# Altium footprint library pinger-pcblib.PcbLib: 11 footprints
Each footprint in its own frame and in the unit in brackets; x right, y up, seen from the top. Pads: shape width x height; smd on the part's side, far side on the other; paste and mask are expansions set on the pad; w line width, h text height; cw(c..) or ccw(c..) is an arc to the next point about the centre after c.
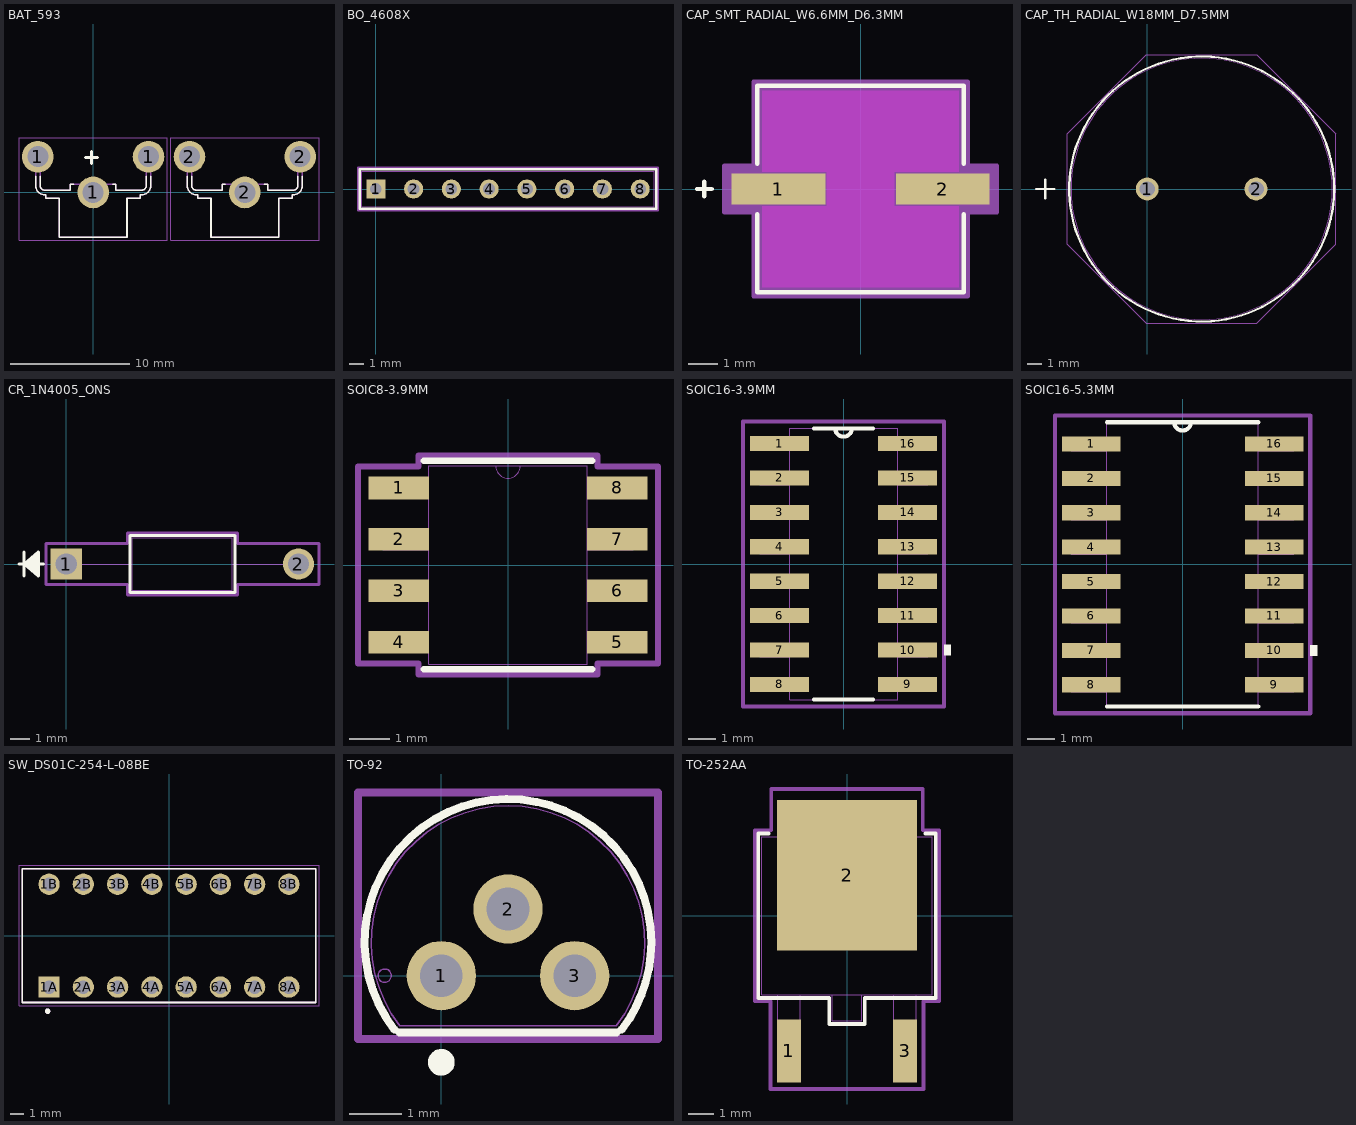
[diagram p0: the footprints below, top view; thin cyan lines are the x and y axes]

## BAT_593 [mm]
height 14.22
pads (6):
  round 2.655 hole 1.77: 1(-4.635,3) 1(0,0) 1(4.635,3) 2(8.065,3) 2(12.7,0) 2(17.335,3)
Top Overlay:
  lines w0.127: -4.825,1.352 -4.825,0.57 ccw(c-4.065,0.57) -4.065,-0.19 -3.962,-0.19 -3.962,-0.495 -2.832,-0.495 -2.832,-3.75 2.832,-3.75 2.832,-0.495 3.962,-0.495 3.962,-0.19 4.065,-0.19 ccw(c4.065,0.57) 4.825,0.57 4.825,1.352 ; -4.445,1.352 -4.445,0.57 ccw(c-4.065,0.57) -4.065,0.19 -1.905,0.19 -1.905,0.7 -1.647,0.7 ; 1.647,0.7 1.905,0.7 1.905,0.19 4.065,0.19 ccw(c4.065,0.57) 4.445,0.57 4.445,1.352 ; 7.875,1.352 7.875,0.57 ccw(c8.635,0.57) 8.635,-0.19 8.738,-0.19 8.738,-0.495 9.867,-0.495 9.867,-3.75 15.532,-3.75 15.532,-0.495 16.662,-0.495 16.662,-0.19 16.765,-0.19 ccw(c16.765,0.57) 17.525,0.57 17.525,1.352 ; 8.255,1.352 8.255,0.57 ccw(c8.635,0.57) 8.635,0.19 10.795,0.19 10.795,0.7 11.052,0.7 ; 14.347,0.7 14.605,0.7 14.605,0.19 16.765,0.19 ccw(c16.765,0.57) 17.145,0.57 17.145,1.352
  lines w0.25: -0.635,2.921 0.381,2.921 ; -0.127,2.413 -0.127,3.429
Mechanical 13:
  lines w0.127: -4.825,0.57 ccw(c-4.065,0.57) -4.065,-0.19 -3.962,-0.19 -3.962,-0.495 -2.832,-0.495 -2.832,-3.75 2.832,-3.75 2.832,-0.495 3.962,-0.495 3.962,-0.19 4.065,-0.19 ccw(c4.065,0.57) 4.825,0.57 4.825,3.77 4.445,3.77 4.445,0.57 cw(c4.065,0.57) 4.065,0.19 1.905,0.19 1.905,0.7 -1.905,0.7 -1.905,0.19 -4.065,0.19 cw(c-4.065,0.57) -4.445,0.57 -4.445,3.77 -4.825,3.77 -4.825,0.57 ; 7.875,0.57 ccw(c8.635,0.57) 8.635,-0.19 8.738,-0.19 8.738,-0.495 9.867,-0.495 9.867,-3.75 15.532,-3.75 15.532,-0.495 16.662,-0.495 16.662,-0.19 16.765,-0.19 ccw(c16.765,0.57) 17.525,0.57 17.525,3.77 17.145,3.77 17.145,0.57 cw(c16.765,0.57) 16.765,0.19 14.605,0.19 14.605,0.7 10.795,0.7 10.795,0.19 8.635,0.19 cw(c8.635,0.57) 8.255,0.57 8.255,3.77 7.875,3.77 7.875,0.57
Mechanical 15:
  lines w0.05: -6.212,-4 6.212,-4 6.212,4.577 -6.212,4.577 -6.212,-4 ; 6.487,-4 6.487,4.577 18.912,4.577 18.912,-4 6.487,-4
3D body "step_temp.STEP": height 14.2, standoff -2.82, extent -4.699,-3.556 4.953,3.962
3D body "step_temp.STEP": height 14.2, standoff -2.82, extent 8.001,-3.556 17.653,3.962

## BO_4608X [mil]
pads (8):
  rect 52x52 hole 32 paste-99999 mask+0: 1(0,0)
  round 52 hole 32 paste-99999 mask+0: 2(103,0) 3(206,0) 4(309,0) 5(412,0) 6(515,0) 7(618,0) 8(721,0)
Top Overlay:
  lines w6: -43.5,-54 -43.5,54 764.5,54 764.5,-54 -43.5,-54
Mechanical 13:
  lines w1: -38.5,-49 -38.5,49 759.5,49 759.5,-49 -38.5,-49
Mechanical 15:
  lines w6: -48.5,-59 769.5,-59 769.5,59 -48.5,59 -48.5,-59
3D body "BO_4608X.step": height 200, standoff -187.99, extent -38.5,-49.02 759.49,49.02

## CAP_SMT_RADIAL_W6.6MM_D6.3MM [mil]
pads (2):
  rect 126x42 smd paste+0 mask+0: 1(-110.5,0) 2(110.5,0)
Top Layer keep-out:
  region: -132,-132 -132,-23 132,-23 132,-132
  region: -132,23 -132,132 132,132 132,23
  region: -45.5,-23 -45.5,23 45.5,23 45.5,-23
Top Overlay:
  lines w6: -220,0 -200,0 ; -210,-10 -210,10 ; -139,-34.1 -139,-139 139,-139 139,-34.1 ; -139,34.1 -139,139 139,139 139,34.1
Keep-Out Layer:
  region: -45.5,-23 -45.5,23 45.5,23 45.5,-23
Mechanical 13:
  lines w1: -134,-67 -67,-134 ; -134,67 -67,134 ; -134,-134 -134,134 134,134 134,-134 -134,-134
Mechanical 15:
  region: -144,-31 -183.5,-31 -183.5,31 -144,31 -144,144 144,144 144,31 183.5,31 183.5,-31 144,-31 144,-144 -144,-144
  lines w6: -183.5,-31 -144,-31 -144,-144 144,-144 144,-31 183.5,-31 183.5,31 144,31 144,144 -144,144 -144,31 -183.5,31 -183.5,-31
3D body "EXV-9H_KEM.step": height 317.09, standoff 0, extent -153.5,-134.02 153.5,134.02

## CAP_TH_RADIAL_W18MM_D7.5MM [mil]
pads (2):
  round 62 hole 42 paste-99999 mask+0: 1(0,0) 2(295.28,0)
Top Overlay:
  circle w6: c147.64,0 r359.5
  lines w6: -301.86,0 -251.86,0 ; -276.86,-25 -276.86,25
Mechanical 13:
  circle w1: c147.64,0 r354.5
  lines w1: -301.86,0 -251.86,0 ; -276.86,-25 -276.86,25
Mechanical 15:
  lines w1: -216.86,-150.09 -216.86,150.09 -2.45,364.5 297.73,364.5 512.14,150.09 512.14,-150.09 297.73,-364.5 -2.45,-364.5 -216.86,-150.09
3D body "CAP_UBY_18X35P5_NCH.step": height 1457.6, standoff -195.98, extent -206.85,-353.67 502.77,353.67

## CR_1N4005_ONS [mil]
pads (2):
  rect 64x64 / inner round 60 / far side rect 64x64 hole 44 paste-99999 mask+0: 1(0,0)
  round 64 / inner round 60 / far side round 64 hole 44 paste-99999 mask+0: 2(475.59,0)
Top Overlay:
  lines w6: -97,0 -47,0 ; -87,-25 -87,25 ; -57,-20 -87,0 ; -57,-15 -87,0 ; -57,-10 -87,0 ; -57,-5 -87,0 ; -57,5 -87,0 ; -57,10 -87,0 ; -57,15 -87,0 ; -57,20 -87,0 ; -87,0 -57,25 -57,-25 -87,0 ; 130.3,-58.5 345.3,-58.5 345.3,58.5 130.3,58.5 130.3,-58.5
Mechanical 13:
  lines w1: -97,0 -47,0 ; -87,-25 -87,25 ; -57,-20 -87,0 ; -57,-15 -87,0 ; -57,-10 -87,0 ; -57,-5 -87,0 ; -57,5 -87,0 ; -57,10 -87,0 ; -57,15 -87,0 ; -57,20 -87,0 ; 0,0 135.3,0 ; 340.3,0 475.59,0 ; -87,0 -57,25 -57,-25 -87,0 ; 135.3,-53.5 340.3,-53.5 340.3,53.5 135.3,53.5 135.3,-53.5
Mechanical 15:
  lines w6: -42,-42 -42,42 125.3,42 125.3,63.5 350.3,63.5 350.3,42 517.59,42 517.59,-42 350.3,-42 350.3,-63.5 125.3,-63.5 125.3,-42 -42,-42
3D body "CR_1N4005_ONS.step": height 107.05, standoff -100, extent -17.01,-53.21 492.6,53.21

## SOIC8-3.9MM [mil]
pads (8):
  rect 59x22 smd paste+0 mask+0: 1(-106.5,75) 2(-106.5,25) 3(-106.5,-25) 4(-106.5,-75) 5(106.5,-75) 6(106.5,-25) 7(106.5,25) 8(106.5,75)
Top Overlay:
  lines w6: -82,-101.5 82,-101.5 ; -82,101.5 82,101.5
  text "." at -165,75 h30
Mechanical 13:
  lines w1: -12,96.5 ccw(c0,96.5) 12,96.5 ; -122,-85 -77,-85 -77,-65 -122,-65 -122,-85 ; -122,-35 -77,-35 -77,-15 -122,-15 -122,-35 ; -122,15 -77,15 -77,35 -122,35 -122,15 ; -122,65 -77,65 -77,85 -122,85 -122,65 ; -77,-96.5 -77,96.5 77,96.5 77,-96.5 -77,-96.5 ; 77,-85 122,-85 122,-65 77,-65 77,-85 ; 77,-35 122,-35 122,-15 77,-15 77,-35 ; 77,15 122,15 122,35 77,35 77,15 ; 77,65 122,65 122,85 77,85 77,65
Mechanical 15:
  lines w6: -146,-96 -87,-96 -87,-106.5 87,-106.5 87,-96 146,-96 146,96 87,96 87,106.5 -87,106.5 -87,96 -146,96 -146,-96
3D body "SOIC8_ONS.step": height 69.09, standoff 0, extent -122.01,-96.5 122.01,96.5

## SOIC16-3.9MM [mil]
pads (16):
  rect 86x22 smd paste-43 mask-43: 1(-93,175) 2(-93,125) 3(-93,75) 4(-93,25) 5(-93,-25) 6(-93,-75) 7(-93,-125) 8(-93,-175) 9(93,-175) 10(93,-125) 11(93,-75) 12(93,-25) 13(93,25) 14(93,75) 15(93,125) 16(93,175)
Top Overlay:
  region: 146,-117.5 156,-117.5 156,-132.5 146,-132.5
  lines w6: -42.89,-197 42.89,-197 ; -42.89,197 42.89,197 ; -12,197 ccw(c0,197) 12,197
  text "." at -180,175 h25
Mechanical 13:
  lines w1: -12,197 ccw(c0,197) 12,197 ; -122,-185 -122,-165 -78.5,-165 -78.5,-185 -122,-185 ; -122,-135 -122,-115 -78.5,-115 -78.5,-135 -122,-135 ; -122,-85 -122,-65 -78.5,-65 -78.5,-85 -122,-85 ; -122,-35 -122,-15 -78.5,-15 -78.5,-35 -122,-35 ; -122,15 -122,35 -78.5,35 -78.5,15 -122,15 ; -122,65 -122,85 -78.5,85 -78.5,65 -122,65 ; -122,115 -122,135 -78.5,135 -78.5,115 -122,115 ; -122,165 -122,185 -78.5,185 -78.5,165 -122,165 ; -78.5,-197 78.5,-197 78.5,197 -78.5,197 -78.5,-197 ; 78.5,-185 78.5,-165 122,-165 122,-185 78.5,-185 ; 78.5,-135 78.5,-115 122,-115 122,-135 78.5,-135 ; 78.5,-85 78.5,-65 122,-65 122,-85 78.5,-85 ; 78.5,-35 78.5,-15 122,-15 122,-35 78.5,-35 ; 78.5,15 78.5,35 122,35 122,15 78.5,15 ; 78.5,65 78.5,85 122,85 122,65 78.5,65 ; 78.5,115 78.5,135 122,135 122,115 78.5,115 ; 78.5,165 78.5,185 122,185 122,165 78.5,165
Mechanical 15:
  lines w6: -146,-207 -146,207 146,207 146,-207 -146,-207
3D body "D16.step": height 69.09, standoff 0, extent -122.01,-197.01 122.01,197.01

## SOIC16-5.3MM [mil]
pads (16):
  rect 85x22 smd paste-42.5 mask-42.5: 1(-133,175) 2(-133,125) 3(-133,75) 4(-133,25) 5(-133,-25) 6(-133,-75) 7(-133,-125) 8(-133,-175) 9(133,-175) 10(133,-125) 11(133,-75) 12(133,-25) 13(133,25) 14(133,75) 15(133,125) 16(133,175)
Top Overlay:
  region: 185.5,-117.5 195.5,-117.5 195.5,-132.5 185.5,-132.5
  lines w6: -110,-206.5 110,-206.5 ; -110,206.5 110,206.5 ; -12,206.5 ccw(c0,206.5) 12,206.5
  text "." at -210,170 h30
Mechanical 13:
  lines w0: -12,206.5 ccw(c0,206.5) 12,206.5
  lines w1: -161.5,-185 -110,-185 -110,-165 -161.5,-165 -161.5,-185 ; -161.5,-135 -110,-135 -110,-115 -161.5,-115 -161.5,-135 ; -161.5,-85 -110,-85 -110,-65 -161.5,-65 -161.5,-85 ; -161.5,-35 -110,-35 -110,-15 -161.5,-15 -161.5,-35 ; -161.5,15 -110,15 -110,35 -161.5,35 -161.5,15 ; -161.5,65 -110,65 -110,85 -161.5,85 -161.5,65 ; -161.5,115 -110,115 -110,135 -161.5,135 -161.5,115 ; -161.5,165 -110,165 -110,185 -161.5,185 -161.5,165 ; -110,-206.5 -110,206.5 110,206.5 110,-206.5 -110,-206.5 ; 110,-185 161.5,-185 161.5,-165 110,-165 110,-185 ; 110,-135 161.5,-135 161.5,-115 110,-115 110,-135 ; 110,-85 161.5,-85 161.5,-65 110,-65 110,-85 ; 110,-35 161.5,-35 161.5,-15 110,-15 110,-35 ; 110,15 161.5,15 161.5,35 110,35 110,15 ; 110,65 161.5,65 161.5,85 110,85 110,65 ; 110,115 161.5,115 161.5,135 110,135 110,115 ; 110,165 161.5,165 161.5,185 110,185 110,165
Mechanical 15:
  lines w6: -185.5,-216.5 185.5,-216.5 185.5,216.5 -185.5,216.5 -185.5,-216.5
3D body "NS16.step": height 79.09, standoff 0, extent -161.5,-206.5 161.5,206.5

## SW_DS01C-254-L-08BE [mm]
height 7
pads (16):
  rect 1.58x1.58 / inner round 1.58 / far side rect 1.58x1.58 hole 1: 1A(-8.89,-3.81)
  round 1.58 hole 1: 1B(-8.89,3.81) 2A(-6.35,-3.81) 2B(-6.35,3.81) 3A(-3.81,-3.81) 3B(-3.81,3.81) 4A(-1.27,-3.81) 4B(-1.27,3.81) 5A(1.27,-3.81) 5B(1.27,3.81) 6A(3.81,-3.81) 6B(3.81,3.81) 7A(6.35,-3.81) 7B(6.35,3.81) 8A(8.89,-3.81) 8B(8.89,3.81)
Top Overlay:
  circle w0.2: c-9,-5.6 r0.1
  lines w0.127: -10.87,-4.95 10.87,-4.95 10.87,4.95 -10.87,4.95 -10.87,-4.95
Mechanical 13:
  circle w0.2: c-9,-5.6 r0.1
  lines w0.127: -10.87,-4.95 10.87,-4.95 10.87,4.95 -10.87,4.95 -10.87,-4.95
Mechanical 15:
  lines w0.05: -11.12,-5.2 11.12,-5.2 11.12,5.2 -11.12,5.2 -11.12,-5.2
3D body "step_temp.STEP": height 5.18, standoff -5.18, extent -10.87,-4.953 10.87,4.947

## TO-92 [mil]
pads (3):
  round 52 hole 32 paste-99999 mask+0: 1(0,0) 2(50,50) 3(100,0)
Top Overlay:
  circle w10: c0,-65 r5
  lines w6: -35.2,-40.55 cw(c50,25) 157.5,25 cw(c50,25) 135.2,-40.55 ; -31.24,-42.5 131.24,-42.5
Mechanical 13:
  circle w1: c-42.5,0 r5
  lines w1: -31.24,-37.5 cw(c50,25) 131.24,-37.5 -31.24,-37.5
  lines w6: -10,0 10,0 ; 0,-10 0,10
Mechanical 15:
  lines w6: -62.5,-47.5 -62.5,137.5 162.5,137.5 162.5,-47.5 -62.5,-47.5
3D body "TO-92_MC_MCH.step": height 210, standoff -187.99, extent -52.39,-17.48 152.39,127.04

## TO-252AA [mil]
pads (3):
  rect 37x98 smd paste+0 mask+0: 1(-90,-209.5) 3(90,-209.5)
  rect 217x233 smd paste+0 mask+0: 2(0,63)
Top Overlay:
  lines w6: -121.6,127.5 -137.5,127.5 -137.5,-127.5 -27.5,-127.5 -27.5,-167.5 27.5,-167.5 27.5,-127.5 137.5,-127.5 137.5,127.5 121.6,127.5
  text "." at -145,-210 h30
Mechanical 13:
  lines w1: -132.5,-122.5 132.5,-122.5 132.5,122.5 -132.5,122.5 -132.5,-122.5 ; -107.5,-244.5 -107.5,-122.5 -72.5,-122.5 -72.5,-244.5 -107.5,-244.5 ; -22.5,-162.5 -22.5,-122.5 22.5,-122.5 22.5,-162.5 -22.5,-162.5 ; 72.5,-244.5 72.5,-122.5 107.5,-122.5 107.5,-244.5 72.5,-244.5
Mechanical 15:
  lines w6: -142.5,-132.5 -142.5,132.5 -117.5,132.5 -117.5,196.5 117.5,196.5 117.5,132.5 142.5,132.5 142.5,-132.5 118.5,-132.5 118.5,-268.5 -118.5,-268.5 -118.5,-132.5 -142.5,-132.5
3D body "DPAK3TO-252_369AS_OSI.step": height 94.09, standoff -2.01, extent -132.52,-244.49 132.52,165.51